# EAGLE library part ESP8266-12E/ESP-12E (library ESP8266-12E_ESP-12E)
ESP-12E WiFi Module
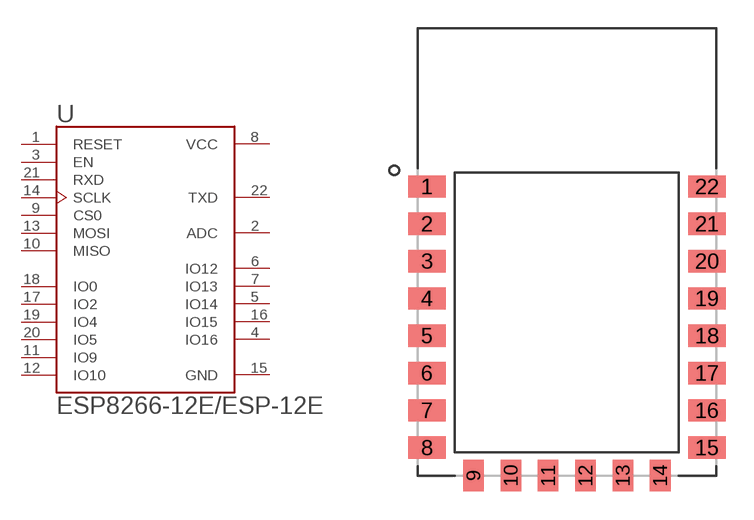
[diagram p0: symbol with the pads of XCVR_ESP8266-12E/ESP-12E; footprint XCVR_ESP8266-12E/ESP-12E]

Designator prefix U

## ESP8266-12E/ESP-12E (Availability: Unavailable; Description: This WiFi module has a 32-bit MCU micro and clock speeds supporting 80 MHz or 160 MHz. Supports the RTOS and integrated Wi-Fi MAC/BB/RF/PA/LNA, and has an on-board antenna.; MF: AI-Thinker; MP: ESP8266-12E/ESP-12E; Package: None; Price: None)  [XCVR_ESP8266-12E/ESP-12E]
1  RESET  in
2  ADC  pas
3  EN  in
4  IO16
5  IO14
6  IO12
7  IO13
8  VCC  pwr
9  CS0  in
10  MISO
11  IO9
12  IO10
13  MOSI
14  SCLK  in
15  GND  pwr
16  IO15
17  IO2
18  IO0
19  IO4
20  IO5
21  RXD  in
22  TXD  out

## Footprint XCVR_ESP8266-12E/ESP-12E (pad centres in mm)
smd 2 x 1.2: 1 -7.5,7; 2 -7.5,5; 3 -7.5,3; 4 -7.5,1; 5 -7.5,-1; 6 -7.5,-3; 7 -7.5,-5; 8 -7.5,-7; 15 7.5,-7; 16 7.5,-5; 17 7.5,-3; 18 7.5,-1; 19 7.5,1; 20 7.5,3; 21 7.5,5; 22 7.5,7
smd 1.1 x 1.7: 9 -5,-8.5; 10 -3,-8.5; 11 -1,-8.5; 12 1,-8.5; 13 3,-8.5; 14 5,-8.5